# EAGLE library part EA_DOG-M_DISPLAY (library display_ea_dogm128)
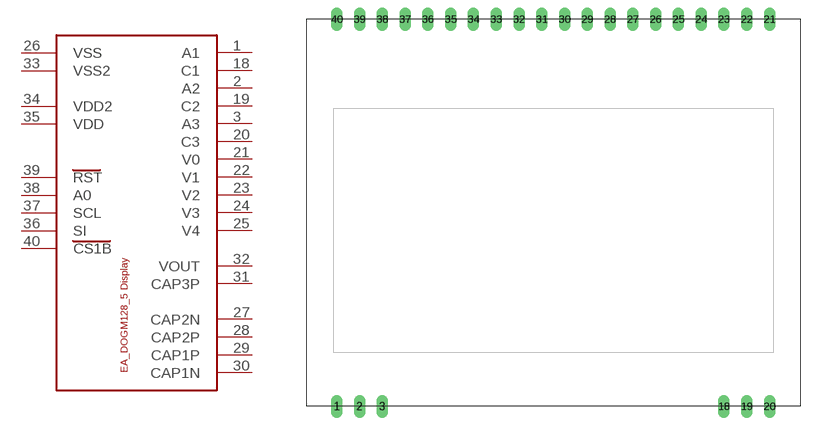
[diagram p0: symbol with the pads of E_DOG-M_DISPLAY; footprint E_DOG-M_DISPLAY]

Designator prefix -

## EA_DOG-M_DISPLAY  [E_DOG-M_DISPLAY]
1  A1
2  A2
3  A3
18  C1
19  C2
20  C3
21  V0  pwr
22  V1  pwr
23  V2
24  V3
25  V4
26  VSS
27  CAP2N
28  CAP2P
29  CAP1P
30  CAP1N
31  CAP3P
32  VOUT
33  VSS2
34  VDD2
35  VDD
36  SI
37  SCL
38  A0
39  RST
40  CS1B

## Footprint E_DOG-M_DISPLAY (pad centres in mm)
drill 0.8 long: 1 0.032,0; 2 2.572,0; 3 5.112,0; 18 43.212,0; 19 45.752,0; 20 48.292,0; 21 48.292,43.18; 22 45.752,43.18; 23 43.212,43.18; 24 40.672,43.18; 25 38.132,43.18; 26 35.592,43.18; 27 33.052,43.18; 28 30.512,43.18; 29 27.972,43.18; 30 25.432,43.18; 31 22.892,43.18; 32 20.352,43.18; 33 17.812,43.18; 34 15.272,43.18; 35 12.732,43.18; 36 10.192,43.18; 37 7.652,43.18; 38 5.112,43.18; 39 2.572,43.18; 40 0.032,43.18